# EAGLE library part B11B-PH-* (library jst-ph1)
Wire-to-Board 2.0mm pitch top mount connector Source: http://www.jst-mfg.com/product/pdf/jpn/PH.pdf http://www.jst-mfg.com/product/detail.php?series=199
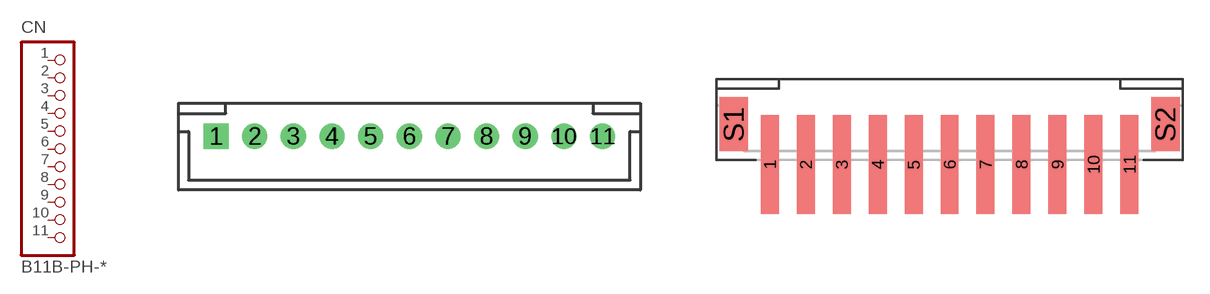
[diagram p5: symbol with the pads of B11B-PH-K-S; footprints B11B-PH-K-S, B11B-PH-SM4-TB]

Designator prefix CN

## B11B-PH-K-S  [B11B-PH-K-S]
1  1  pas
2  2  pas
3  3  pas
4  4  pas
5  5  pas
6  6  pas
7  7  pas
8  8  pas
9  9  pas
10  10  pas
11  11  pas

## B11B-PH-SM4-TB  [B11B-PH-SM4-TB]
Pads as for B11B-PH-K-S

## Footprint B11B-PH-K-S (pad centres in mm)
drill 0.8 square: 1 -10,0
drill 0.8: 2 -8,0; 3 -6,0; 4 -4,0; 5 -2,0; 6 0,0; 7 2,0; 8 4,0; 9 6,0; 10 8,0; 11 10,0

## Footprint B11B-PH-SM4-TB (pad centres in mm)
smd 1 x 5.5: 1 -10,-3.05; 2 -8,-3.05; 3 -6,-3.05; 4 -4,-3.05; 5 -2,-3.05; 6 0,-3.05; 7 2,-3.05; 8 4,-3.05; 9 6,-3.05; 10 8,-3.05; 11 10,-3.05
smd 1.6 x 3: S1 -12,-0.8; S2 12,-0.8